# Altium schematic symbol library Omron_G6SK-2G.SchLib: 2 symbols
Pins are listed as number, name and electrical type; pins without a type are passive.

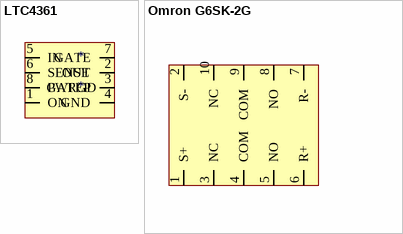
[diagram p0: symbols LTC4361 to Omron G6SK-2G]

## LTC4361
designator *
pins: 1 ON, 2 OUT, 3 GATEP, 4 GND, 5 IN, 6 SENSE, 7 GATE, 8 PWRGD

## Omron G6SK-2G
designator U?, comment G6SK-2G DC3
RELAY TELECOM DPDT 2A 3V
footprint G6SK-2G DC3 (RELAY TELECOM DPDT 2A 3V)
footprint G6SK-2G DC3 (RELAY TELECOM DPDT 2A 3V)
footprint G6SK-2G DC3 (RELAY TELECOM DPDT 2A 3V)
pins: 1 S+, 2 S-, 3 NC, 4 COM, 5 NO, 6 R+, 7 R-, 8 NO, 9 COM, 10 NC